# Altium footprint library MF_Frequency_Control.PCBLIB: 4 footprints
Each footprint in its own frame and in the unit in brackets; x right, y up, seen from the top. Pads: shape width x height; smd on the part's side, far side on the other; paste and mask are expansions set on the pad; w line width, h text height; cw(c..) or ccw(c..) is an arc to the next point about the centre after c.
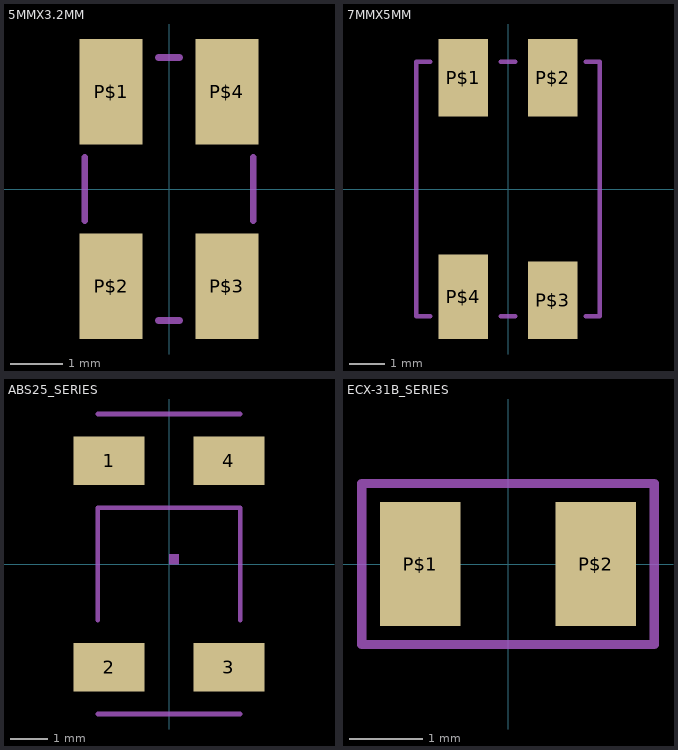
[diagram p0: the footprints below, top view; thin cyan lines are the x and y axes]

## 5MMX3.2MM [mm]
pads (4):
  rect 1.2x2 smd: P$1(-1.1,1.85) P$2(-1.1,-1.85) P$3(1.1,-1.85) P$4(1.1,1.85)
Mechanical 22:
  lines w0.127: -1.6,-0.6 -1.6,0.6 ; -0.2,-2.5 0.2,-2.5 ; -0.2,2.5 0.2,2.5 ; 1.6,-0.6 1.6,0.6

## 7MMX5MM [mm]
pads (4):
  rect 1.4x2.2 smd: P$1(-1.27,3.15) P$2(1.27,3.15) P$3(1.27,-3.15)
  rect 1.4x2.4 smd: P$4(-1.27,-3.05)
Mechanical 22:
  lines w0.127: -2.2,-3.6 -2.6,-3.6 -2.6,3.6 -2.2,3.6 ; -0.2,-3.6 0.2,-3.6 ; -0.2,3.6 0.2,3.6 ; 2.2,-3.6 2.6,-3.6 2.6,3.6 2.2,3.6

## ABS25_SERIES [mm]
pads (4):
  rect 1.9x1.3 smd: 1(-1.6,2.75) 2(-1.6,-2.75) 3(1.6,-2.75) 4(1.6,2.75)
Mechanical 22:
  region: 0,0 0.254,0 0.254,0.254 0,0.254
  lines w0.127: -1.9,-4 1.9,-4 ; -1.9,-1.5 -1.9,1.5 1.9,1.5 1.9,-1.5 ; -1.9,4 1.9,4

## ECX-31B_SERIES [mm]
pads (2):
  rect 1.1x1.7 smd: P$1(-1.2,0) P$2(1.2,0)
Mechanical 22:
  lines w0.127: -2,-1.1 2,-1.1 2,1.1 -2,1.1 -2,-1.1